# EAGLE library part DF11-14-2DSA (library con-hirose-df11)
HEADER
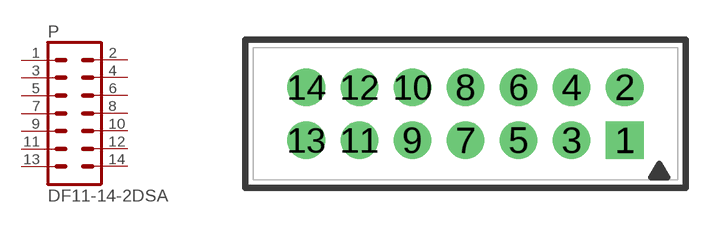
[diagram p4: symbol with the pads of DF11-14DP-2DSA; footprint DF11-14DP-2DSA]

Designator prefix P

## DF11-14-2DSA  [DF11-14DP-2DSA]
1  1  pas
2  2  pas
3  3  pas
4  4  pas
5  5  pas
6  6  pas
7  7  pas
8  8  pas
9  9  pas
10  10  pas
11  11  pas
12  12  pas
13  13  pas
14  14  pas

## Footprint DF11-14DP-2DSA (pad centres in mm)
HEADER
drill 0.914 square: 1 6,-1
drill 0.914: 2 6,1; 3 4,-1; 4 4,1; 5 2,-1; 6 2,1; 7 0,-1; 8 0,1; 9 -2,-1; 10 -2,1; 11 -4,-1; 12 -4,1; 13 -6,-1; 14 -6,1